# Altium schematic symbol library 原理图库.SchLib: 34 symbols
Pins are listed as number, name and electrical type; pins without a type are passive.

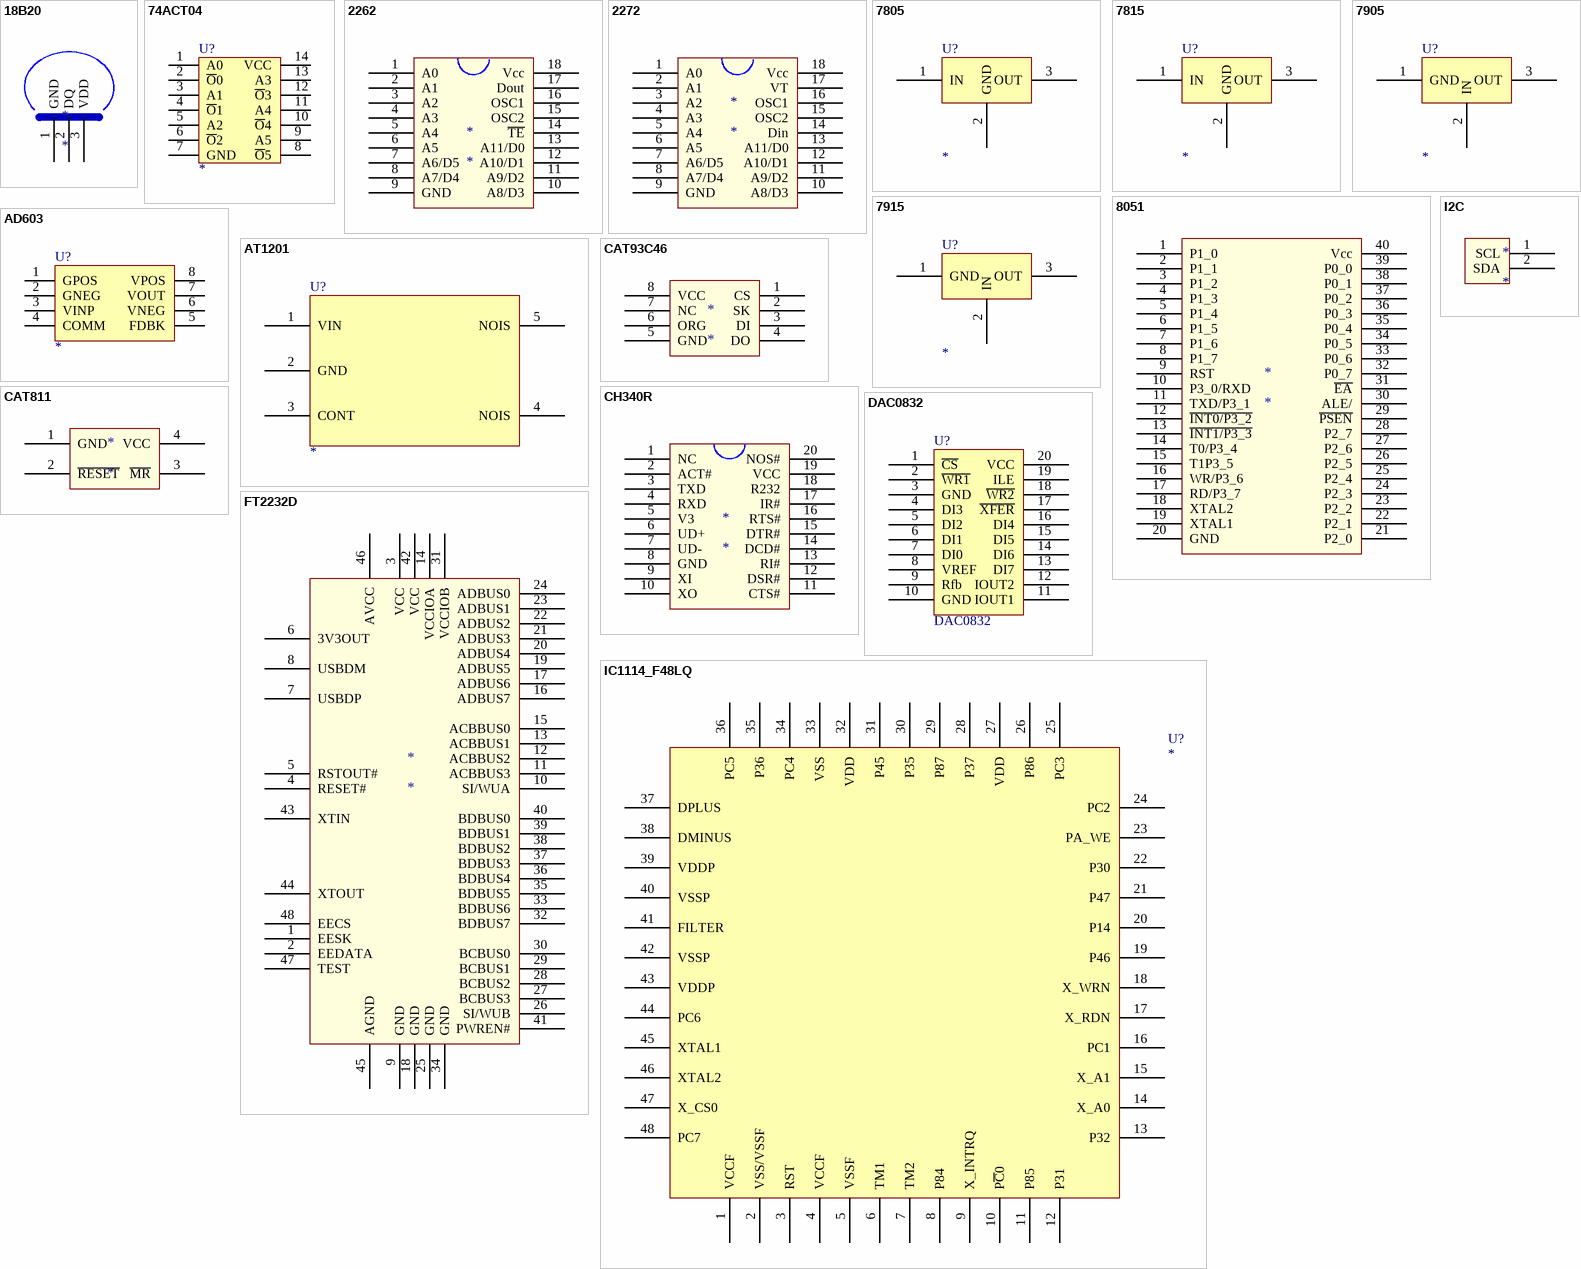
[diagram p0: symbols 18B20 to IC1114_F48LQ]

## 18B20
designator *
footprint HDR1X3 (Connector; Header; 3 Position)
pins: 1 GND, 2 DQ, 3 VDD

## 74ACT04
designator U?
footprint SOP-14
pins: 1 A0, 2 ~{O}0, 3 A1, 4 ~{O}1, 5 A2, 6 ~{O}2, 7 GND, 8 ~{O}5, 9 A5, 10 ~{O}4, 11 A4, 12 ~{O}3, 13 A3, 14 VCC

## 2262
designator *
footprint DIP-18 (DIP; 18 Leads; Row Spacing 7.62 mm; Pitch 2.54 mm)
pins: 1 A0, 2 A1, 3 A2, 4 A3, 5 A4, 6 A5, 7 A6/D5, 8 A7/D4, 9 GND, 10 A8/D3, 11 A9/D2, 12 A10/D1, 13 A11/D0, 14 ~{TE}, 15 OSC2, 16 OSC1, 17 Dout, 18 Vcc

## 2272
designator *
footprint DIP-18 (DIP; 18 Leads; Row Spacing 7.62 mm; Pitch 2.54 mm)
pins: 1 A0, 2 A1, 3 A2, 4 A3, 5 A4, 6 A5, 7 A6/D5, 8 A7/D4, 9 GND, 10 A8/D3, 11 A9/D2, 12 A10/D1, 13 A11/D0, 14 Din, 15 OSC2, 16 OSC1, 17 VT, 18 Vcc

## 7805
designator U?
footprint HDR1X3 (Connector; Header; 3 Position)
pins: 1 IN, 2 GND, 3 OUT

## 7815
designator U?
footprint HDR1X3 (Connector; Header; 3 Position)
pins: 1 IN, 2 GND, 3 OUT

## 7905
designator U?
footprint HDR1X3 (Connector; Header; 3 Position)
pins: 1 GND, 2 IN, 3 OUT

## 7915
designator U?
footprint HDR1X3 (Connector; Header; 3 Position)
pins: 1 GND, 2 IN, 3 OUT

## 8051
designator *
pins: 1 P1_0, 2 P1_1, 3 P1_2, 4 P1_3, 5 P1_4, 6 P1_5, 7 P1_6, 8 P1_7, 9 RST, 10 P3_0/RXD, 11 TXD/P3_1, 12 ~{INT0/P3_2}, 13 ~{INT1/P3_3}, 14 T0/P3_4, 15 T1P3_5, 16 WR/P3_6, 17 RD/P3_7, 18 XTAL2, 19 XTAL1, 20 GND, 21 P2_0, 22 P2_1, 23 P2_2, 24 P2_3, 25 P2_4, 26 P2_5, 27 P2_6, 28 P2_7, 29 ~{PSEN}, 30 ALE/, 31 ~{EA}, 32 P0_7, 33 P0_6, 34 P0_5, 35 P0_4, 36 P0_3, 37 P0_2, 38 P0_1, 39 P0_0, 40 Vcc

## AD603
designator U?
footprint SO-8
pins: 1 GPOS, 2 GNEG, 3 VINP, 4 COMM, 5 FDBK, 6 VNEG, 7 VOUT, 8 VPOS

## AT1201
designator U?
pins: 1 VIN, 2 GND, 3 CONT, 4 NOIS, 5 NOIS

## CAT93C46
designator *
footprint SO8 (Small Outline; 8 Leads; Body Width 3.9 mm; Pitch 1.27 mm)
pins: 1 CS, 2 SK, 3 DI, 4 DO, 5 GND, 6 ORG, 7 NC, 8 VCC

## CAT811
designator *
footprint SOT-143 (SOT-143; 4 Leads; Body 3 x 2.6 mm, inc. leads (LxW max))
pins: 1 GND, 2 ~{RESET}, 3 ~{MR}, 4 VCC

## CH340R
designator *
footprint SSOP-20
pins: 1 NC, 2 ACT#, 3 TXD, 4 RXD, 5 V3, 6 UD+, 7 UD-, 8 GND, 9 XI, 10 XO, 11 CTS#, 12 DSR#, 13 RI#, 14 DCD#, 15 DTR#, 16 RTS#, 17 IR#, 18 R232, 19 VCC, 20 NOS#

## DAC0832
designator U?
footprint DIP-20
pins: 1 ~{CS}, 2 ~{WR1}, 3 GND, 4 DI3, 5 DI2, 6 DI1, 7 DI0, 8 VREF, 9 Rfb, 10 GND, 11 IOUT1, 12 IOUT2, 13 DI7, 14 DI6, 15 DI5, 16 DI4, 17 ~{XFER}, 18 ~{WR2}, 19 ILE, 20 VCC

## FT2232D
designator *
footprint LQFP-48
pins: 1 EESK, 2 EEDATA, 3 VCC, 4 RESET#, 5 RSTOUT#, 6 3V3OUT, 7 USBDP, 8 USBDM, 9 GND, 10 SI/WUA, 11 ACBBUS3, 12 ACBBUS2, 13 ACBBUS1, 14 VCCIOA, 15 ACBBUS0, 16 ADBUS7, 17 ADBUS6, 18 GND, 19 ADBUS5, 20 ADBUS4, 21 ADBUS3, 22 ADBUS2, 23 ADBUS1, 24 ADBUS0, 25 GND, 26 SI/WUB, 27 BCBUS3, 28 BCBUS2, 29 BCBUS1, 30 BCBUS0, 31 VCCIOB, 32 BDBUS7, 33 BDBUS6, 34 GND, 35 BDBUS5, 36 BDBUS4, 37 BDBUS3, 38 BDBUS2, 39 BDBUS1, 40 BDBUS0, 41 PWREN#, 42 VCC, 43 XTIN, 44 XTOUT, 45 AGND, 46 AVCC, 47 TEST, 48 EECS

## I2C
designator *
footprint HDR1X2 (Connector; Header; 2 Position)
pins: 1 SCL, 2 SDA

## IC1114_F48LQ
designator U?
pins: 1 VCCF, 2 VSS/VSSF, 3 RST, 4 VCCF, 5 VSSF, 6 TM1, 7 TM2, 8 P84, 9 X_INTRQ, 10 P~{C}0, 11 P85, 12 P31, 13 P32, 14 X_A0, 15 X_A1, 16 PC1, 17 X_RDN, 18 X_WRN, 19 P46, 20 P14, 21 P47, 22 P30, 23 PA_WE, 24 PC2, 25 PC3, 26 P86, 27 VDD, 28 P37, 29 P87, 30 P35, 31 P45, 32 VDD, 33 VSS, 34 PC4, 35 P36, 36 PC5, 37 DPLUS, 38 DMINUS, 39 VDDP, 40 VSSP, 41 FILTER, 42 VSSP, 43 VDDP, 44 PC6, 45 XTAL1, 46 XTAL2, 47 X_CS0, 48 PC7

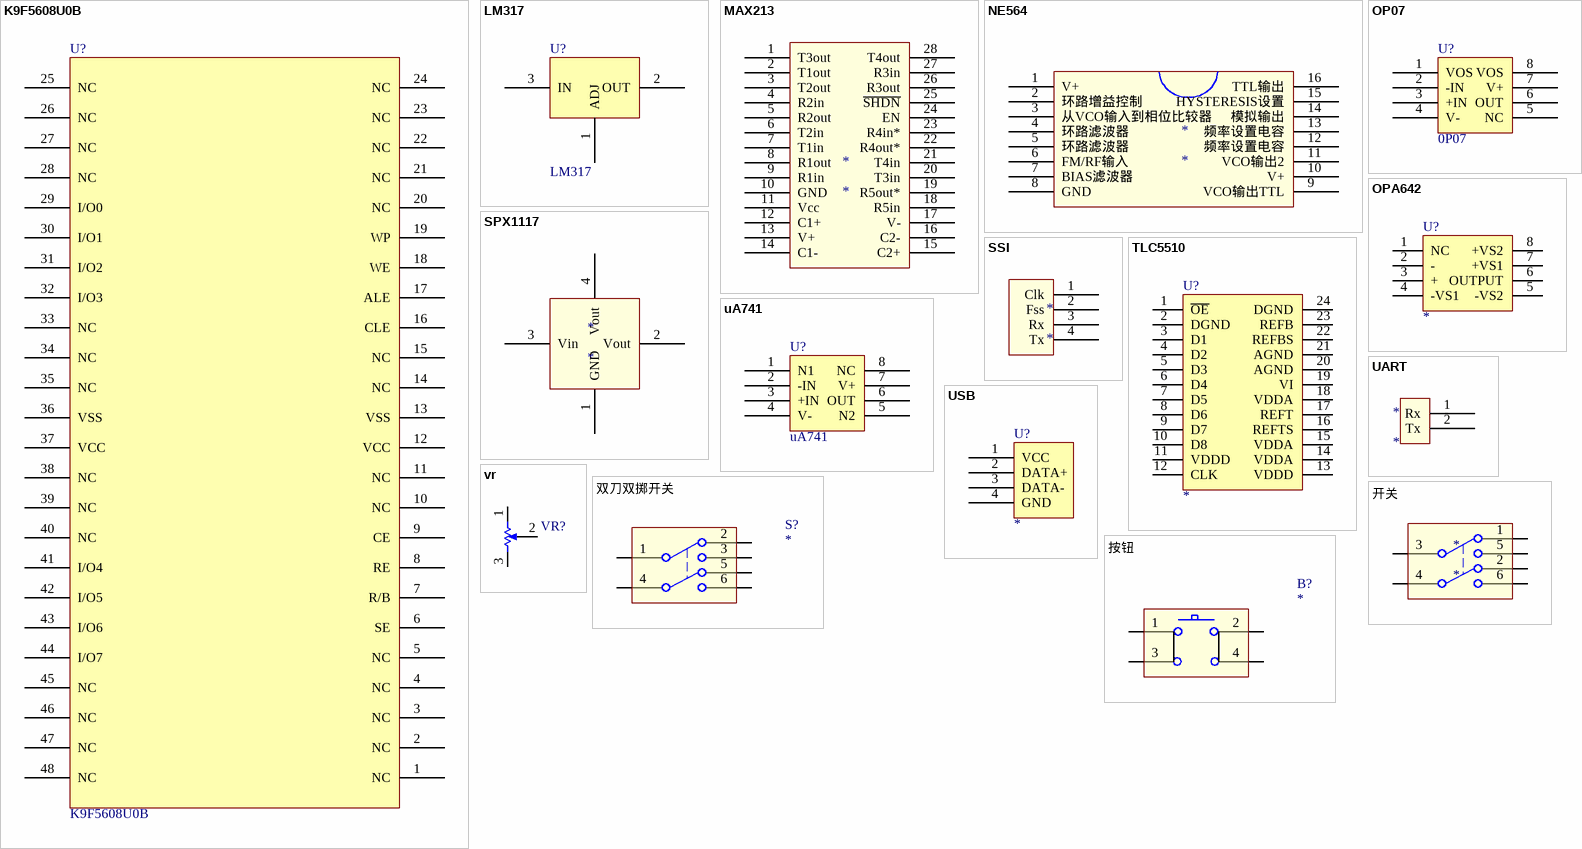
[diagram p1: symbols K9F5608U0B to 按钮]

## K9F5608U0B
designator U?
pins: 1 NC, 2 NC, 3 NC, 4 NC, 5 NC, 6 SE, 7 R/B, 8 RE, 9 CE, 10 NC, 11 NC, 12 VCC, 13 VSS, 14 NC, 15 NC, 16 CLE, 17 ALE, 18 WE, 19 WP, 20 NC, 21 NC, 22 NC, 23 NC, 24 NC, 25 NC, 26 NC, 27 NC, 28 NC, 29 I/O0, 30 I/O1, 31 I/O2, 32 I/O3, 33 NC, 34 NC, 35 NC, 36 VSS, 37 VCC, 38 NC, 39 NC, 40 NC, 41 I/O4, 42 I/O5, 43 I/O6, 44 I/O7, 45 NC, 46 NC, 47 NC, 48 NC

## LM317
designator U?
pins: 1 ADJ, 2 OUT, 3 IN

## MAX213
designator *
footprint SSOP-28
pins: 1 T3out, 2 T1out, 3 T2out, 4 R2in, 5 R2out, 6 T2in, 7 T1in, 8 R1out, 9 R1in, 10 GND, 11 Vcc, 12 C1+, 13 V+, 14 C1-, 15 C2+, 16 C2-, 17 V-, 18 R5in, 19 R5out*, 20 T3in, 21 T4in, 22 R4out*, 23 R4in*, 24 EN, 25 ~{SHDN}, 26 R3out, 27 R3in, 28 T4out

## NE564
designator *
footprint SO-16 (Small Outline; 16 Leads; Body Width 5.6 mm; Pitch 1.27 mm)
pins: 1 V+, 2 环路增益控制, 3 从VCO输入到相位比较器, 4 环路滤波器, 5 环路滤波器, 6 FM/RF输入, 7 BIAS滤波器, 8 GND, 9 VCO输出TTL, 10 V+, 11 VCO输出2, 12 频率设置电容, 13 频率设置电容, 14 模拟输出, 15 HYSTERESIS设置, 16 TTL输出

## OP07
designator U?, comment 0P07
footprint DIP-8
pins: 1 VOS, 2 -IN, 3 +IN, 4 V-, 5 NC, 6 OUT, 7 V+, 8 VOS

## OPA642
designator U?
pins: 1 NC, 2 -, 3 +, 4 -VS1, 5 -VS2, 6 OUTPUT, 7 +VS1, 8 +VS2

## SPX1117
designator *
footprint SOT223 (SOT-223/SC-73; 4 Leads; Body 6.7 x 7.3 mm, inc. leads (LxW max))
pins: 1 GND, 2 Vout, 3 Vin, 4 Vout

## SSI
designator *
footprint HDR1X4 (Connector; Header; 4 Position)
pins: 1 Clk, 2 Fss, 3 Rx, 4 Tx

## TLC5510
designator U?
模数转换芯片
footprint SOP-24 - duplicate3
footprint SOP-24 - duplicate3
pins: 1 ~{OE}, 2 DGND, 3 D1, 4 D2, 5 D3, 6 D4, 7 D5, 8 D6, 9 D7, 10 D8, 11 VDDD, 12 CLK, 13 VDDD, 14 VDDA, 15 VDDA, 16 REFTS, 17 REFT, 18 VDDA, 19 VI, 20 AGND, 21 AGND, 22 REFBS, 23 REFB, 24 DGND

## uA741
designator U?
footprint DIP-8
pins: 1 N1, 2 -IN, 3 +IN, 4 V-, 5 N2, 6 OUT, 7 V+, 8 NC

## UART
designator *
footprint HDR1X2 (Connector; Header; 2 Position)
pins: 1 Rx, 2 Tx

## USB
designator U?
footprint USB-A (扁头USB封装)
footprint USB-B (方头USB)
pins: 1 VCC, 2 DATA+, 3 DATA-, 4 GND, 5 NC hidden, 6 NC hidden

## vr
designator VR?, comment variable resister  (value not drawn)
footprint HDR1X3 (Connector; Header; 3 Position)
pins: 1 IN, 2 OUT, 3 ADJ

## 双刀双掷开关
designator S?
footprint 双刀双掷开关 (双刀双掷开关封装)
pins: 1, 2, 3, 4, 5, 6

## 开关
designator *
footprint 开关
pins: 1, 2, 3, 4, 5, 6

## 按钮
designator B?
footprint 按钮
pins: 1, 2, 3, 4